# EAGLE library part TPS542941 (library pandaLight)
2A/3A dual channel synchronous step-down switcher with integrated FET
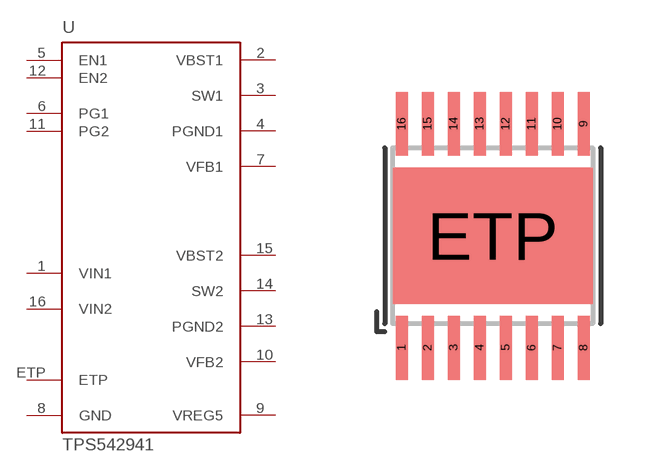
[diagram p20: symbol with the pads of R-PDSO-G16; footprint R-PDSO-G16]

Designator prefix U

## TPS542941PWP  [R-PDSO-G16]
1  VIN1  pwr
2  VBST1  in
3  SW1
4  PGND1  pwr
5  EN1  in
6  PG1  out
7  VFB1  in
8  GND  pwr
9  VREG5  sup
10  VFB2  in
11  PG2  out
12  EN2  in
13  PGND2  pwr
14  SW2
15  VBST2  in
16  VIN2  pwr
ETP  ETP  nc

## Footprint R-PDSO-G16 (pad centres in mm)
smd 0.3 x 1.6: 1 -2.275,-2.8; 2 -1.625,-2.8; 3 -0.975,-2.8; 4 -0.325,-2.8; 5 0.325,-2.8; 6 0.975,-2.8; 7 1.625,-2.8; 8 2.275,-2.8; 9 2.275,2.8; 10 1.625,2.8; 11 0.975,2.8; 12 0.325,2.8; 13 -0.325,2.8; 14 -0.975,2.8; 15 -1.625,2.8; 16 -2.275,2.8
smd 5 x 3.4: ETP 0,0